# Altium schematic symbol library SM712.SchLib: 1 symbol
Pins are listed as number, name and electrical type; pins without a type are passive.

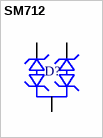
[diagram p0: symbol SM712]

## SM712
designator D?, comment OK  (value not drawn)
ESD Protection Diodes / TVS Diodes 12V, 1.0uA
pins: 1 IO1, 2 IO2, 3 GND